# EAGLE library part AD7895 (library Radicon)
5 V, 12-Bit, Serial 3.8 ms ADC in 8-Pin Package FEATURES Fast 12-Bit ADC with 3.8 ms Conversion Time 8-Pin Mini-DlP and SOIC Single 5 V Supply Operation High Speed, Easy-to-Use, Serial Interface On-Chip Track/Hold Amplifier Selection of Input Ranges +-10 V for AD7895-10 +-2.5 V for AD7895-3 0 V to +2.5 V for AD7895-2 High Input Impedance Low Power: 20 mW max 14-Bit Pin Compatible Upgrade (AD7894)
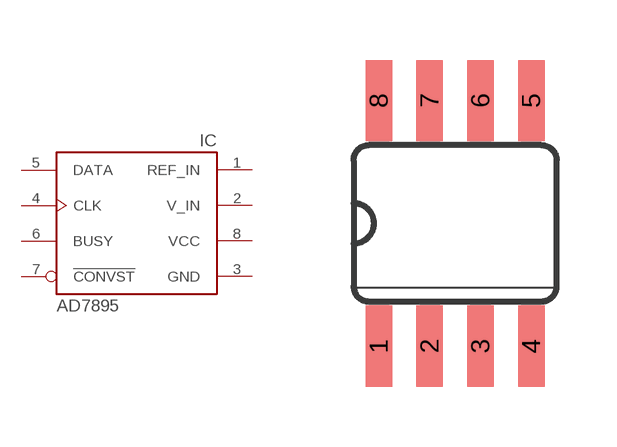
[diagram p11: symbol with the pads of SO08; footprint SO08]

Designator prefix IC

## AD7895  [SO08]
1  REF_IN
2  V_IN
3  GND
4  CLK
5  DATA
6  BUSY
7  !CONVST
8  VCC

## Footprint SO08 (pad centres in mm)
Small Outline package 8 150 mil
smd 0.66 x 2.032: 1 -1.905,-3.073; 2 -0.635,-3.073; 3 0.635,-3.073; 4 1.905,-3.073; 5 1.905,3.073; 6 0.635,3.073; 7 -0.635,3.073; 8 -1.905,3.073